# Altium schematic symbol library Fuses.SchLib: 3 symbols
Pins are listed as number, name and electrical type; pins without a type are passive.

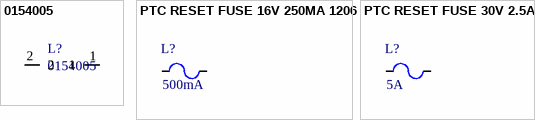
[diagram p0: symbols 0154005 to PTC RESET FUSE 30V 2.5A]

## 0154005
designator L?
FUSE BRD MNT 5A 125VAC/VDC 2SMD; Precision: 20%; Supplier 1: Digi-Key; Mounted: Yes; Supplier Part Number 1: 308-2498-1-ND; Package / Case: SMD; Current: 5A
footprint Fuse-2-SMD (Metric 2012, EIA 0805. Drawn per Yageo "Chip resistors Mounting" rev 10)
pins: 1, 2

## PTC RESET FUSE 16V 250MA 1206
designator L?  Trip Current: 500mA  (hidden comment: PTC RESET FUSE 16V 250MA 1206)
Package / Case: Metric 3216, EIA 1206; Mounted: Yes; Volt: 16V; Supplier 1: Digikey; Hold Current (Max): 250mA; Supplier Part Number 1: F2110CT-ND
footprint CAPACITOR-1206 (Metric 3216, EIA 1206, Per Yageo Product Specification V2.2)
pins: 1, 2

## PTC RESET FUSE 30V 2.5A
designator L?  Trip Current: 5A  (hidden comment: PTC RESET FUSE 30V 2.5A)
Mounted: Yes; Volt: 30V; Hold Current (Max): 2.5A; Supplier 1: Digikey; Supplier Part Number 1: F2025-ND
footprint PolyFuse 5.1mm PintoPin (PolyFuse 30R series)
pins: 1, 2